# Altium schematic symbol library ESD7004MUTAG.SchLib: 1 symbol
Pins are listed as number, name and electrical type; pins without a type are passive.

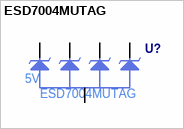
[diagram p0: symbol ESD7004MUTAG]

## ESD7004MUTAG
designator U?  Working Voltage: 5V  Manufacturer Part Number: ESD7004MUTAG  (hidden comment: *)
pins: 1 IO, 2 IO, 3 GND, 4 IO, 5 IO, 6 IO, 7 IO, 8 GND, 9 IO, 10 IO